# Altium schematic symbol library Dr_lib.SchLib: 31 symbols
Pins are listed as number, name and electrical type; pins without a type are passive.

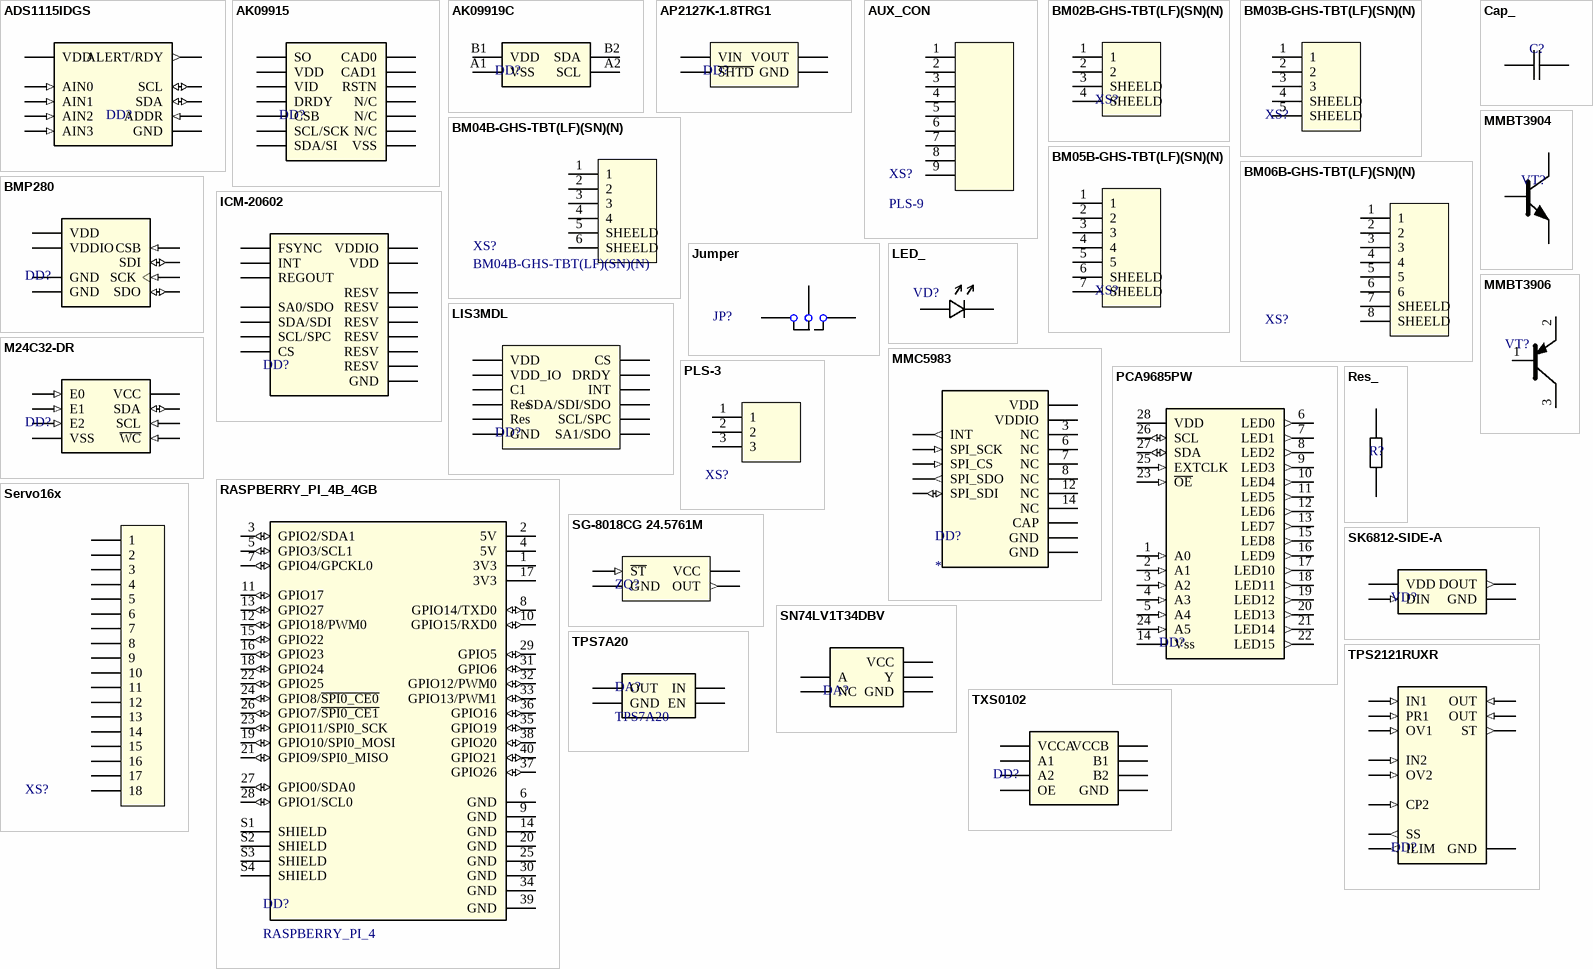
[diagram p0: symbols ADS1115IDGS to TXS0102]

## ADS1115IDGS
designator DD?
Ultra-Small, Low-Power, 16-Bit, ADC with Internal Reference, 4-channel
footprint MSOP-10 (ADS1115)
footprint QFN-10 (ADS1115)
pins: 1 ADDR (in), 2 ALERT/RDY (out), 3 GND, 4 AIN0 (in), 5 AIN1 (in), 6 AIN2 (in), 7 AIN3 (in), 8 VDD, 9 SDA (io), 10 SCL (io)

## AK09915
designator DD?  (value not drawn)
3-axis Electronic Compass
footprint AK09915
pins: A1 DRDY, A2 CSB, A3 SCL/SCK, A4 SDA/SI, B1 VDD, B3 N/C, B4 SO, C1 VSS, C2 N/C, C3 N/C, C4 VID, D1 CAD0, D2 CAD1, D4 RSTN

## AK09919C
designator DD?  (value not drawn)
3-axis Electronic Compass, 1.8V.
footprint AK09916
pins: A1 VSS, A2 SCL, B1 VDD, B2 SDA

## AP2127K-1.8TRG1
designator DD?  (value not drawn)
300mA High Speed, Extremely low noise CMOS LDO regulator
footprint SOT-23-5
pins: 1 VIN, 2 GND, 3 ~{SHTD}, 5 VOUT

## AUX_CON
designator XS?, comment PLS-9
footprint AUX_CON
pins: 1, 2, 3, 4, 5, 6, 7, 8, 9

## BM02B-GHS-TBT(LF)(SN)(N)
designator XS?  (value not drawn)
footprint BM02B-GHS-TBT
pins: 1, 2, 3 SHEELD, 4 SHEELD

## BM03B-GHS-TBT(LF)(SN)(N)
designator XS?  (value not drawn)
footprint BM03B-GHS-TBT
pins: 1, 2, 3, 4 SHEELD, 5 SHEELD

## BM04B-GHS-TBT(LF)(SN)(N)
designator XS?
footprint BM04B-GHS-TBT
pins: 1, 2, 3, 4, 5 SHEELD, 6 SHEELD

## BM05B-GHS-TBT(LF)(SN)(N)
designator XS?  (value not drawn)
footprint BM05B-GHS-TBT
pins: 1, 2, 3, 4, 5, 6 SHEELD, 7 SHEELD

## BM06B-GHS-TBT(LF)(SN)(N)
designator XS?  (value not drawn)
footprint BM06B-GHS-TBT
pins: 1, 2, 3, 4, 5, 6, 7 SHEELD, 8 SHEELD

## BMP280
designator DD?  (value not drawn)
BMP280 Absolute Barometric Pressure Sensor for Battery Powered Devices 2 x 2.5mm
footprint 8-pin metal-lid LGA 2.0*2.5*0.95
pins: 1 GND, 2 CSB (in), 3 SDI (io), 4 SCK (in), 5 SDO (io), 6 VDDIO, 7 GND, 8 VDD

## Cap_
designator C?
footprint Cap_0603
footprint Cap_0402
pins: 1, 2

## ICM-20602
designator DD?  (value not drawn)
6-axis MotionTracking device. / 3-axis gyroscope, 3-axis accelerometer
footprint 16-pin LGA
pins: 1 VDDIO, 2 SCL/SPC, 3 SDA/SDI, 4 SA0/SDO, 5 CS, 6 INT, 7 RESV, 8 FSYNC, 9 RESV, 10 RESV, 11 RESV, 12 RESV, 13 GND, 14 REGOUT, 15 RESV, 16 VDD

## Jumper
designator JP?
footprint 3X
footprint Jumper
pins: 1 "Cathode", 2 "Cathode", 3 "Cathode"

## LED_
designator VD?  (value not drawn)
footprint LED_0402
footprint 0603_LED
pins: 1 K, 2 A

## LIS3MDL
designator DD?  (value not drawn)
Ultra-low power, high-perfomance 3-axis magnetometer.
footprint LGA-12
pins: 1 SCL/SPC, 2 Res, 3 GND, 4 C1, 5 VDD, 6 VDD_IO, 7 INT, 8 DRDY, 9 SA1/SDO, 10 CS, 11 SDA/SDI/SDO, 12 Res

## M24C32-DR
designator DD?  (value not drawn)
EEPROM Memory IC 32Kb (4K x 8) I²C 1 MHz 450 ns
footprint TSSOP-8
pins: 1 E0 (in), 2 E1 (in), 3 E2 (in), 4 VSS, 5 SDA (io), 6 SCL (in), 7 ~{WC} (in), 8 VCC

## MMBT3904
designator VT?  (value not drawn)
SOT-23, -40V, -0.2A, PNP Bipolar Transistor
footprint SOT-23-3
pins: 1 B, 2 E, 3 C

## MMBT3906
designator VT?  (value not drawn)
SOT-23, 40V, 0.2A, NPN Bipolar Transistor
footprint SOT-23-3
pins: 1 B, 2 E, 3 C

## MMC5983
designator DD?
3-axis Magnetic Sensor
footprint LGA-16
pins: 1 SPI_SCK (in), 2 VDD, 3 NC, 4 SPI_CS (in), 5 SPI_SDO (out), 6 NC, 7 NC, 8 NC, 9 GND, 10 CAP, 11 GND, 12 NC, 13 VDDIO, 14 NC, 15 INT (out), 16 SPI_SDI (io)

## PCA9685PW
designator DD?  (value not drawn)
16-ch, 12-bit PWM Fm+ I2C-bus LED controller
footprint TSSOP28
footprint HVQFN28; pin to pad 1>26 2>27 3>28 4>1 5>2 6>3 7>4 8>5 9>6 10>7 11>8 12>9 13>10 14>11 15>12 16>13 17>14 18>15 19>16 20>17 21>18 22>19 23>20 24>21 25>22 26>23 27>24 28>25
pins: 1 A0 (in), 2 A1 (in), 3 A2 (in), 4 A3 (in), 5 A4 (in), 6 LED0 (out), 7 LED1 (out), 8 LED2 (out), 9 LED3 (out), 10 LED4 (out), 11 LED5 (out), 12 LED6 (out), 13 LED7 (out), 14 Vss, 15 LED8 (out), 16 LED9 (out), 17 LED10 (out), 18 LED11 (out), 19 LED12 (out), 20 LED13 (out), 21 LED14 (out), 22 LED15 (out), 23 ~{OE} (in), 24 A5 (in), 25 EXTCLK (in), 26 SCL (io), 27 SDA (io), 28 VDD

## PLS-3
designator XS?  (value not drawn)
footprint 3X
footprint BM03B-GHS-TBT
pins: 1, 2, 3

## RASPBERRY_PI_4B_4GB
designator DD?, comment RASPBERRY_PI_4
BCM2711 Raspberry Pi 4 Model B 4GB - ARMÂ® CortexÂ®-A72 MPU Embedded Evaluation Board; MP: RASPBERRY PI 4B/4GB; Price: None; MF: Raspberry Pi; Check_prices: https://www.snapeda.com/parts/RASPBERRY%20PI%204B/4GB/Raspberry+Pi/view-part/?ref=eda; Value: *; Purchase-URL: https://pricing.snapeda.com/search/part/RASPBERRY PI 4B/4GB/?ref=eda; Availability: In Stock; SnapEDA_Link: https://www.snapeda.com/parts/RASPBERRY%20PI%204B/4GB/Raspberry+Pi/view-part/?ref=snap; Package: None
footprint MOD_RASPBERRY_PI_4B_4GB
pins: 1 3V3 (power), 2 5V (power), 3 GPIO2/SDA1 (io), 4 5V (power), 5 GPIO3/SCL1 (io), 6 GND (power), 7 GPIO4/GPCKL0 (io), 8 GPIO14/TXD0 (io), 9 GND (power), 10 GPIO15/RXD0 (io), 11 GPIO17 (io), 12 GPIO18/PWM0 (io), 13 GPIO27 (io), 14 GND (power), 15 GPIO22 (io), 16 GPIO23 (io), 17 3V3 (power), 18 GPIO24 (io), 19 GPIO10/SPI0_MOSI (io), 20 GND (power), 21 GPIO9/SPI0_MISO (io), 22 GPIO25 (io), 23 GPIO11/SPI0_SCK (io), 24 GPIO8/~{SPI0_CE0} (io), 25 GND (power), 26 GPIO7/~{SPI0_CE1} (io), 27 GPIO0/SDA0 (io), 28 GPIO1/SCL0 (io), 29 GPIO5 (io), 30 GND (power), 31 GPIO6 (io), 32 GPIO12/PWM0 (io), 33 GPIO13/PWM1 (io), 34 GND (power), 35 GPIO19 (io), 36 GPIO16 (io), 37 GPIO26 (io), 38 GPIO20 (io), 39 GND (power), 40 GPIO21 (io), S1 SHIELD (power), S2 SHIELD (power), S3 SHIELD (power), S4 SHIELD (power)

## Res_
designator R?  (value not drawn)
footprint Res_0402
footprint Res_0603
pins: 1, 2

## Servo16x
designator XS?  (value not drawn)
16*3
footprint Servo16x
pins: 1, 2, 3, 4, 5, 6, 7, 8, 9, 10, 11, 12, 13, 14, 15, 16, 17, 18

## SG-8018CG 24.5761M
designator ZQ?  (value not drawn)
Crystal Oscillator 24.576MHz
footprint SG-8018CG 24.5761M-TJHSA0
pins: 1 ~{ST} (in), 2 GND (power), 3 OUT (out), 4 VCC (power)

## SK6812-SIDE-A
designator VD?  (value not drawn)
LED chip
pins: 1 DIN (in), 2 VDD, 3 DOUT (out), 4 GND

## SN74LV1T34DBV
designator DA?  (value not drawn)
Single Power Supply Single Buffer GATE CMOS Logic Level Sgifter
footprint SOT-23-5
pins: 1 NC, 2 A, 3 GND, 4 Y, 5 VCC

## TPS7A20
designator DA?
High PSRR LDO
footprint SOT-23-5
pins: 1 IN, 2 GND, 3 EN, 5 OUT

## TPS2121RUXR
designator DD?  (value not drawn)
2.8V to 22V Priority Power MUX with Seamless Switchover
footprint 12-pin VQFN-HR
pins: 1 OUT (in), 2 IN2 (in), 3 CP2 (in), 4 OV2 (in), 5 OV1 (in), 6 PR1 (in), 7 IN1 (in), 8 OUT (in), 9 ST (out), 10 ILIM (out), 11 SS (out), 12 GND

## TXS0102
designator DD?  (value not drawn)
2-bit Bidirectional Voltage-level Translator for Open-Drain and Push-Pull Application
footprint DSBGA 8-pin
footprint VSSOP-8
pins: 1 B2, 2 GND, 3 VCCA, 4 A2, 5 A1, 6 OE, 7 VCCB, 8 B1